# Altium schematic symbol library RC0603JR-0722KL.SchLib: 1 symbol
Pins are listed as number, name and electrical type; pins without a type are passive.

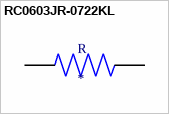
[diagram p0: symbol RC0603JR-0722KL]

## RC0603JR-0722KL
designator R
22 kOhms Â±5% 0.1W, 1/10W Chip Resistor 0603 _1608 Metric_ Moisture Resistant Thick Film; MP: RC0603JR-0722KL; MF: Yageo; SnapEDA_Link: https://www.snapeda.com/parts/RC0603JR-0722KL/Yageo/view-part/105941/?ref=snap; Package: 1608 Yageo; Price: None; Value: *; Availability: Unavailable
footprint RESC1608X55N
pins: 1, 2